# EAGLE library part 74HC21D (library NXP_By_element14_Batch_1)
Dual 4-input AND gate
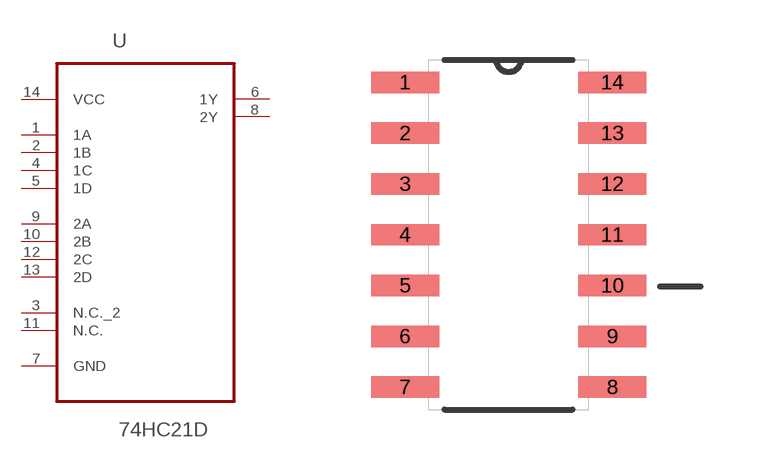
[diagram p53: symbol with the pads of SOIC127P600X175-14N; footprint SOIC127P600X175-14N]

Designator prefix U

## 74HC21D (MPN: 74HC21D; OC_FARNELL: 1085328; OC_NEWARK: 99K0585; P1I: o; PACKAGE: SOIC-14; SUPPLIER: NXP)  [SOIC127P600X175-14N]
1  1A  in
2  1B  in
3  N.C._2  nc
4  1C  in
5  1D  in
6  1Y  out
7  GND  pas
8  2Y  out
9  2A  in
10  2B  in
11  N.C.  nc
12  2C  in
13  2D  in
14  VCC  pwr

## Footprint SOIC127P600X175-14N (pad centres in mm)
smd 1.702 x 0.533: 1 -2.591,3.81; 2 -2.591,2.54; 3 -2.591,1.27; 4 -2.591,0; 5 -2.591,-1.27; 6 -2.591,-2.54; 7 -2.591,-3.81; 8 2.591,-3.81; 9 2.591,-2.54; 10 2.591,-1.27; 11 2.591,0; 12 2.591,1.27; 13 2.591,2.54; 14 2.591,3.81